# Altium footprint library InductorsFootprint.PcbLib: 10 footprints
Each footprint in its own frame and in the unit in brackets; x right, y up, seen from the top. Pads: shape width x height; smd on the part's side, far side on the other; paste and mask are expansions set on the pad; w line width, h text height; cw(c..) or ccw(c..) is an arc to the next point about the centre after c.
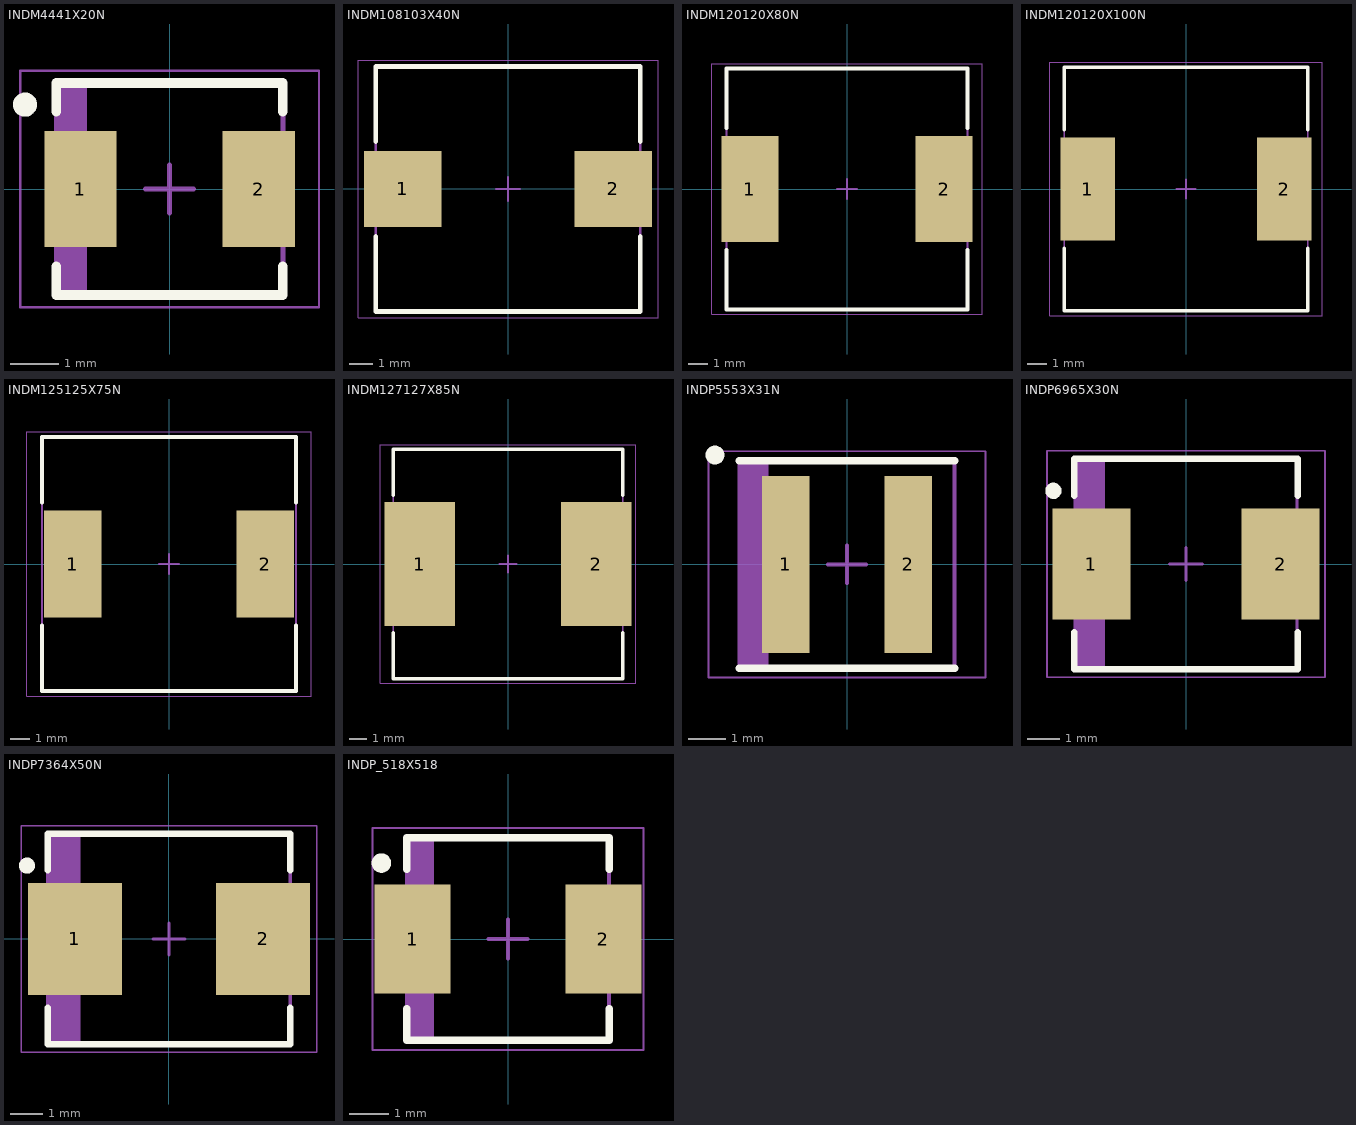
[diagram p0: the footprints below, top view; thin cyan lines are the x and y axes]

## INDM4441X20N [mm] "Molded Inductor, 2-Leads, Body 4.45x4.06mm, IPC Medium Density"
height 2
pads (2):
  rect 1.5x2.4 smd: 1(-1.85,0) 2(1.85,0)
Top Overlay:
  circle w0.25: c-3,1.75 r0.125
  lines w0.2: -2.35,-1.6 -2.35,-2.2 2.35,-2.2 2.35,-1.6 ; -2.35,1.6 -2.35,2.2 2.35,2.2 2.35,1.6
Mechanical 13:
  rectangle: -2.35,-2.155 -1.718,2.155
  lines w0.1: -2.35,-2.155 2.35,-2.155 2.35,2.155 -2.35,2.155 -2.35,-2.155
Mechanical 15:
  lines w0.05: -3.1,-2.45 3.1,-2.45 3.1,2.45 -3.1,2.45 -3.1,-2.45
  lines w0.1: -0.5,0 0.5,0 ; 0,-0.5 0,0.5
3D body "INDM4441X20N.step": height 2, standoff 0, extent -2.57,-2.155 2.57,2.155

## INDM108103X40N [mm] "Molded Inductor, 2-Leads, Body 10.80x10.31mm, IPC Medium Density"
height 4
pads (2):
  rect 3.25x3.2 smd: 1(-4.425,0) 2(4.425,0)
Top Overlay:
  lines w0.2: -5.55,-2 -5.55,-5.15 5.55,-5.15 5.55,-2 ; -5.55,2 -5.55,5.15 5.55,5.15 5.55,2
Mechanical 13:
  lines w0.1: -5.55,-5.145 -5.55,5.145 5.55,5.145 5.55,-5.145 -5.55,-5.145
Mechanical 15:
  lines w0.05: -6.3,-5.4 -6.3,5.4 6.3,5.4 6.3,-5.4 -6.3,-5.4
  lines w0.1: -0.5,0 0.5,0 ; 0,-0.5 0,0.5
3D body "INDM108103X40N.step": height 4, standoff 0, extent -5.77,-5.145 5.77,5.145

## INDM120120X80N [mm] "Molded Inductor, 2-Leads, Body 12.00x12.00mm, IPC Medium Density"
height 8
pads (2):
  rect 2.9x5.4 smd: 1(-4.95,0) 2(4.95,0)
Top Overlay:
  lines w0.2: -6.15,-3.1 -6.15,-6.15 6.15,-6.15 6.15,-3.1 ; -6.15,3.1 -6.15,6.15 6.15,6.15 6.15,3.1
Mechanical 13:
  lines w0.1: -6.15,-6.15 -6.15,6.15 6.15,6.15 6.15,-6.15 -6.15,-6.15
Mechanical 15:
  lines w0.05: -6.9,-6.4 -6.9,6.4 6.9,6.4 6.9,-6.4 -6.9,-6.4
  lines w0.1: -0.5,0 0.5,0 ; 0,-0.5 0,0.5
3D body "Download_WE-PD_1280_STP (rev1).stp": height 7.26, standoff -0.2, extent -6,-6 6,6

## INDM120120X100N [mm] "Molded Inductor, 2-Leads, Body 12.00x12.00mm, IPC Medium Density"
height 10
pads (2):
  rect 2.8x5.3 smd: 1(-5.05,0) 2(5.05,0)
Top Overlay:
  lines w0.2: -6.25,-3.05 -6.25,-6.25 6.25,-6.25 6.25,-3.05 ; -6.25,3.05 -6.25,6.25 6.25,6.25 6.25,3.05
Mechanical 13:
  lines w0.1: -6.25,-6.25 6.25,-6.25 6.25,6.25 -6.25,6.25 -6.25,-6.25
Mechanical 15:
  lines w0.05: -7,-6.5 7,-6.5 7,6.5 -7,6.5 -7,-6.5
  lines w0.1: -0.5,0 0.5,0 ; 0,-0.5 0,0.5
3D body "INDM120120X100N.step": height 10, standoff 0, extent -6.47,-6.25 6.47,6.25

## INDM125125X75N [mm] "Molded Inductor, 2-Leads, Body 12.50x12.50mm, IPC Medium Density"
height 7.5
pads (2):
  rect 2.9x5.4 smd: 1(-4.85,0) 2(4.85,0)
Top Overlay:
  lines w0.2: -6.4,-3.1 -6.4,-6.4 6.4,-6.4 6.4,-3.1 ; -6.4,3.1 -6.4,6.4 6.4,6.4 6.4,3.1
Mechanical 13:
  lines w0.1: -6.4,-6.4 -6.4,6.4 6.4,6.4 6.4,-6.4 -6.4,-6.4
Mechanical 15:
  lines w0.05: -7.15,-6.65 -7.15,6.65 7.15,6.65 7.15,-6.65 -7.15,-6.65
  lines w0.1: -0.5,0 0.5,0 ; 0,-0.5 0,0.5
3D body "INDM125125X75N.step": height 7.5, standoff 0, extent -6.62,-6.4 6.62,6.4

## INDM127127X85N [mm] "Molded Inductor, 2-Leads, Body 12.70x12.70mm, IPC Medium Density"
height 8.5
pads (2):
  rect 4x7 smd: 1(-5,0) 2(5,0)
Top Overlay:
  lines w0.2: -6.5,-3.9 -6.5,-6.5 6.5,-6.5 6.5,-3.9 ; -6.5,3.9 -6.5,6.5 6.5,6.5 6.5,3.9
Mechanical 13:
  lines w0.1: -6.5,-6.5 -6.5,6.5 6.5,6.5 6.5,-6.5 -6.5,-6.5
Mechanical 15:
  lines w0.05: -7.25,-6.75 -7.25,6.75 7.25,6.75 7.25,-6.75 -7.25,-6.75
  lines w0.1: -0.5,0 0.5,0 ; 0,-0.5 0,0.5
3D body "INDM127127X85N.step": height 8.5, standoff 0, extent -6.72,-6.5 6.72,6.5

## INDP5553X31N [mm] "Precision Wire Wound Inductor, 2-Leads, Body 5.50x5.30mm, IPC Medium Density"
height 3.1
pads (2):
  rect 1.25x4.7 smd: 1(-1.625,0) 2(1.625,0)
Top Overlay:
  circle w0.25: c-3.5,2.9 r0.125
  lines w0.2: -2.85,-2.75 2.85,-2.75 ; -2.85,2.75 2.85,2.75
Mechanical 13:
  rectangle: -2.85,-2.75 -2.083,2.75
  lines w0.1: -2.85,-2.75 -2.85,2.75 2.85,2.75 2.85,-2.75 -2.85,-2.75
Mechanical 15:
  lines w0.05: -3.675,-3 -3.675,3 3.675,3 3.675,-3 -3.675,-3
  lines w0.1: -0.5,0 0.5,0 ; 0,-0.5 0,0.5
3D body "SRP5030CA.stp": height 2.91, standoff -0.03, extent -2.523,-2.75 2.777,2.75

## INDP6965X30N [mm] "Precision Wire Wound Inductor, 2-Leads, Body 6.86x6.47mm, IPC Medium Density"
height 3
pads (2):
  rect 2.42x3.429 smd: 1(-2.925,0) 2(2.925,0)
Top Overlay:
  circle w0.25: c-4.1,2.264 r0.125
  lines w0.2: -3.45,-2.114 -3.45,-3.25 3.45,-3.25 3.45,-2.114 ; -3.45,2.114 -3.45,3.25 3.45,3.25 3.45,2.114
Mechanical 13:
  rectangle: -3.43,-3.235 -2.507,3.235
  lines w0.1: -3.43,-3.235 -3.43,3.235 3.43,3.235 3.43,-3.235 -3.43,-3.235
Mechanical 15:
  lines w0.05: -4.3,-3.5 -4.3,3.5 4.3,3.5 4.3,-3.5 -4.3,-3.5
  lines w0.1: -0.5,0 0.5,0 ; 0,-0.5 0,0.5
3D body "IHLP2525CZ.step": height 2.89, standoff 0, extent -3.533,-3.343 3.544,3.327

## INDP7364X50N [mm] "Precision Wire Wound Inductor, 2-Leads, Body 7.30x6.45mm, IPC Medium Density"
height 5
pads (2):
  rect 2.95x3.5 smd: 1(-2.95,0) 2(2.95,0)
Top Overlay:
  circle w0.25: c-4.45,2.3 r0.125
  lines w0.2: -3.8,-2.15 -3.8,-3.3 3.8,-3.3 3.8,-2.15 ; -3.8,2.15 -3.8,3.3 3.8,3.3 3.8,2.15
Mechanical 13:
  rectangle: -3.8,-3.3 -2.778,3.3
  lines w0.1: -3.8,-3.3 3.8,-3.3 3.8,3.3 -3.8,3.3 -3.8,-3.3
Mechanical 15:
  lines w0.05: -4.625,-3.55 4.625,-3.55 4.625,3.55 -4.625,3.55 -4.625,-3.55
  lines w0.1: -0.5,0 0.5,0 ; 0,-0.5 0,0.5
3D body "SRP7050TA.stp": height 4.6, standoff -0.35, extent -3.618,-3.337 3.682,3.263

## INDP_518X518 [mm]
pads (2):
  rect 1.95x2.8 smd: 1(-2.45,0) 2(2.45,0)
Top Overlay:
  circle w0.25: c-3.25,1.95 r0.125
  lines w0.2: -2.6,-1.8 -2.6,-2.6 2.6,-2.6 2.6,-1.8 ; -2.6,1.8 -2.6,2.6 2.6,2.6 2.6,1.8
Mechanical 13:
  rectangle: -2.59,-2.59 -1.893,2.59
  lines w0.1: -2.59,-2.59 -2.59,2.59 2.59,2.59 2.59,-2.59 -2.59,-2.59
Mechanical 15:
  lines w0.05: -3.475,-2.85 -3.475,2.85 3.475,2.85 3.475,-2.85 -3.475,-2.85
  lines w0.1: -0.5,0 0.5,0 ; 0,-0.5 0,0.5
3D body "IHLP2020BZ.step": height 1.95, standoff 0.03, extent -2.725,-2.59 2.725,2.556